# Altium footprint library SWG.PcbLib: 26 footprints (part 2 of 2)
Each footprint in its own frame and in the unit in brackets; x right, y up, seen from the top. Pads: shape width x height; smd on the part's side, far side on the other; paste and mask are expansions set on the pad; w line width, h text height; cw(c..) or ccw(c..) is an arc to the next point about the centre after c.
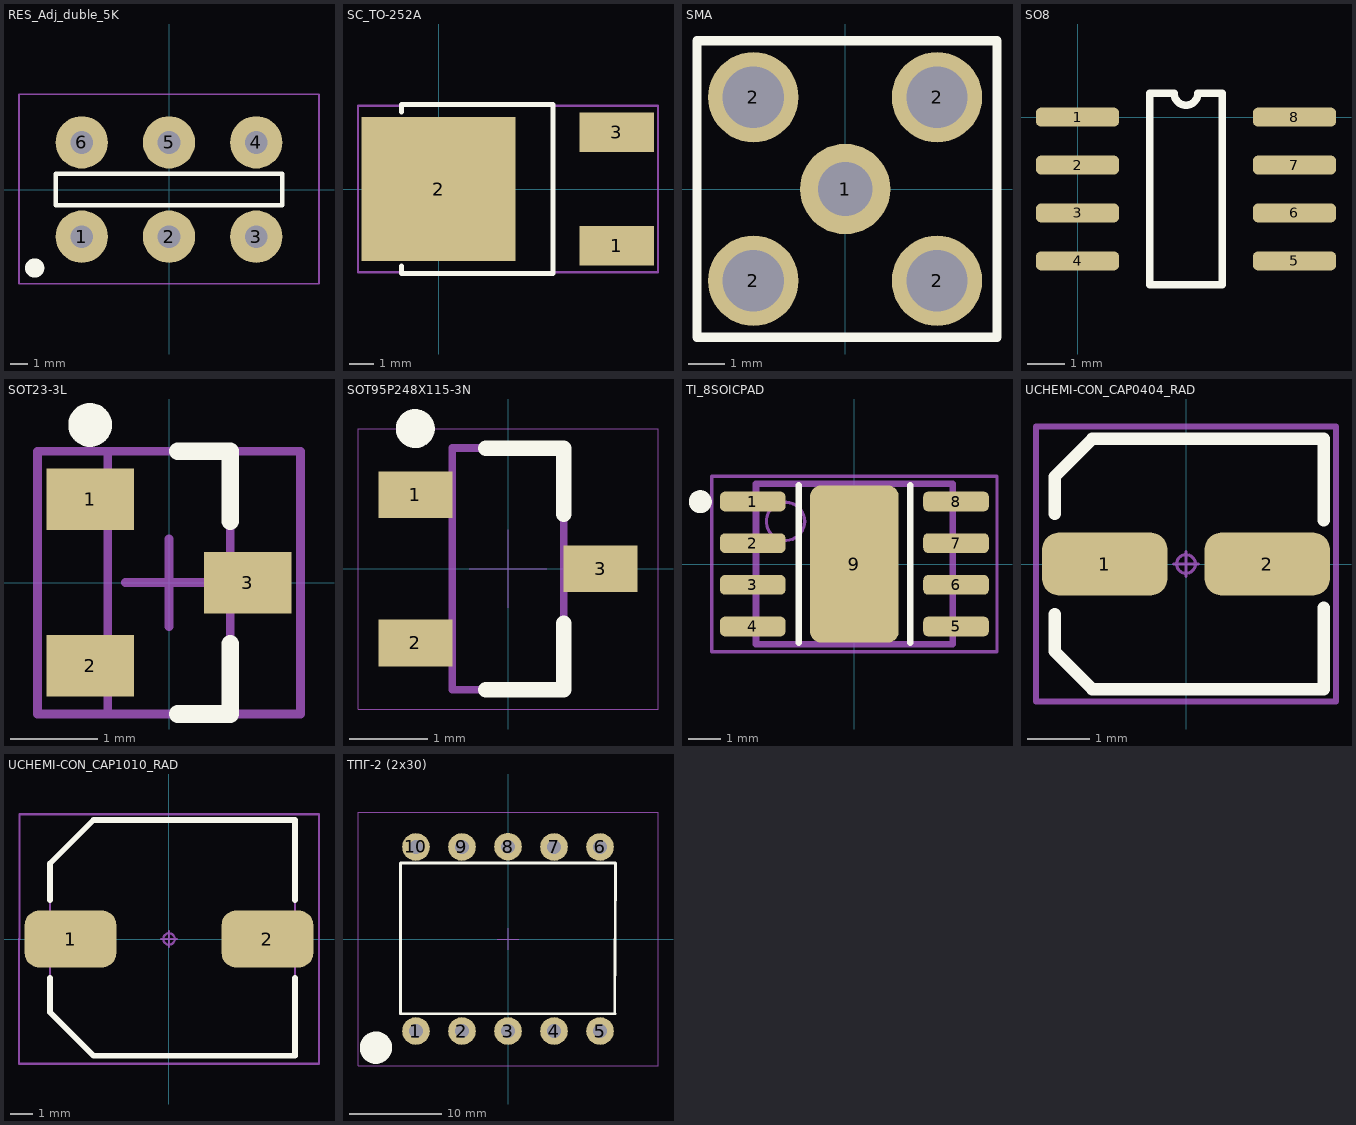
[diagram p1: the footprints below, top view; thin cyan lines are the x and y axes]

## RES_Adj_duble_5K [mm]
height 1
pads (6):
  round 3 hole 1.3: 1(-5,-2.7) 2(0,-2.7) 3(5,-2.7) 4(5,2.7) 5(0,2.7) 6(-5,2.7)
Top Overlay:
  circle w0.7: c-7.7,-4.5 r0.2
  lines w0.254: -6.5,-0.9 6.5,-0.9 6.5,0.9 -6.5,0.9 -6.5,-0.9
Mechanical 15:
  lines w0.1: -8.6,-5.4 8.6,-5.4 8.6,5.461 -8.6,5.461 -8.6,-5.4
3D body: height 1.24, standoff -1.24, extent -2.667,2.794 -2.667,2.794
3D body: height 1.24, standoff -1.24, extent -0.508,2.54 -0.508,2.54
3D body: height 22.2, standoff 0, extent 4.472,-1.397 4.472,-1.397
3D body: height 21.1, standoff 0, extent -8.4,-11.2 8.4,5.3

## SC_TO-252A [mm] "D-PAK"
height 2.55
pads (3):
  rect 3x1.6 smd: 1(7.18,-2.286) 3(7.18,2.286)
  rect 6.2x5.8 smd: 2(0,0)
Top Overlay:
  lines w0.2: -1.5,-3.1 -1.5,-3.4 4.6,-3.4 4.6,3.4 ; -1.5,3.1 -1.5,3.4 4.6,3.4 ; 4.6,3.3 4.6,3.4
Mechanical 15:
  lines w0.1: -3.25,-3.35 8.839,-3.35 8.839,3.35 -3.25,3.35 -3.25,-3.35
3D body "User Library-TO252AA.STEP": height 2.3, standoff -0.01, extent -2.7,-3.29 7,3.29

## SMA [mm]
pads (5):
  round 2.5 hole 1.5: 1(0,0)
  round 2.5 hole 1.7: 2(-2.54,-2.54) 2(-2.54,2.54) 2(2.54,-2.54) 2(2.54,2.54)
Top Overlay:
  lines w0.254: -4.1,-4.1 4.2,-4.1 4.2,4.1 -4.1,4.1 -4.1,-4.1

## SO8 [mm]
pads (16):
  rrect50% 2.2x0.5 smd: 1(0,0) 2(0,-1.27) 3(0,-2.54) 4(0,-3.81) 5(5.75,-3.81) 6(5.75,-2.54) 7(5.75,-1.27) 8(5.75,0)
  rect 2.15x0 smd: 1(0,0)
  oval 2.15x0 smd: 2(0,-1.27) 3(0,-2.54) 4(0,-3.81) 5(5.75,-3.81) 6(5.75,-2.54) 7(5.75,-1.27) 8(5.75,0)
Top Overlay:
  lines w0.2: 1.91,-4.445 3.84,-4.445 3.84,0.635 3.193,0.635 cw(c2.875,0.635) 2.558,0.635 1.91,0.635 1.91,-4.445

## SOT23-3L [mm] "SOT23, 3-Leads, Body 2.9x1.3mm, Pitch 0.95mm, Lead Span 2.5mm, IPC High Density"
height 1.1
pads (3):
  rect 1x0.7 smd: 1(-0.9,0.95) 2(-0.9,-0.95) 3(0.9,0)
Top Overlay:
  circle w0.25: c-0.9,1.8 r0.125
  lines w0.2: 0.1,-1.5 0.7,-1.5 0.7,-0.7 ; 0.1,1.5 0.7,1.5 0.7,0.7
Mechanical 13:
  lines w0.1: -0.7,-1.5 -0.7,1.5 0.7,1.5 0.7,-1.5 -0.7,-1.5
Mechanical 15:
  lines w0.1: -0.5,0 0.5,0 ; 0,-0.5 0,0.5 ; -1.5,-1.5 1.5,-1.5 1.5,1.5 -1.5,1.5 -1.5,-1.5
3D body "User Library-SOT-23-2.STEP": height 1.08, standoff 0, extent -1.32,-1.5 1.32,1.5

## SOT95P248X115-3N [mm] "SOT23, 3-Leads, Body 2,95x2,48mm, Pitch 0,95mm, IPC Medium Density"
height 1.15
pads (3):
  rect 0.95x0.6 smd: 1(-1.19,0.95) 2(-1.19,-0.95) 3(1.19,0)
Top Overlay:
  circle w0.25: c-1.19,1.8 r0.125
  lines w0.2: -0.285,-1.55 0.715,-1.55 0.715,-0.7 ; -0.285,1.55 0.715,1.55 0.715,0.7
Mechanical 13:
  lines w0.1: -0.715,-1.55 -0.715,1.55 0.715,1.55 0.715,-1.55 -0.715,-1.55
Mechanical 15:
  lines w0.01: -0.5,0 0.5,0 ; 0,-0.5 0,0.5 ; -1.925,-1.8 -1.925,1.8 1.925,1.8 1.925,-1.8 -1.925,-1.8
3D body "SOT95P248X115-3N.step": height 1.15, standoff 0, extent -1.3,-1.55 1.3,1.55

## TI_8SOICPAD [mm]
pads (9):
  rrect50% 2x0.6 smd: 1(-3.1,1.905) 2(-3.1,0.635) 3(-3.1,-0.635) 4(-3.1,-1.905) 5(3.1,-1.905) 6(3.1,-0.635) 7(3.1,0.635) 8(3.1,1.905)
  rrect25% 2.7x4.8 smd: 9(0,0)
Top Overlay:
  circle w0.5: c-4.7,1.9 r0.1
  lines w0.2: -1.7,-2.4 -1.7,2.4 ; 1.7,-2.4 1.7,2.4
Mechanical 13:
  circle w0.1: c-2.1,1.3 r0.583
  lines w0.2: -3,-2.45 -3,2.45 3,2.45 3,-2.45 -3,-2.45
Mechanical 15:
  lines w0.1: -4.35,1.9 -4.35,2.675 ; -2,-2.675 4.35,-2.675 ; -1.975,-2.675 -4.35,-2.675 -4.35,-1.9 -4.35,2.675 ; -1.975,2.675 -4.35,2.675 ; -1,0 1,0 ; 0,-1 0,1 ; 1.975,-2.675 4.35,-2.675 ; 4.35,-1.9 4.35,-2.675 ; 4.35,1.9 4.35,2.675 ; -4.35,2.675 1.975,2.675 ; 1.975,2.675 4.35,2.675 ; 1.975,2.675 4.35,2.675 ; 4.35,-2.675 4.35,2.675
3D body "User Library-SOIC-8-1.step": height 1.75, standoff 0, extent -3,-2.45 3,2.45

## UCHEMI-CON_CAP0404_RAD [mm]
pads (2):
  rrect50% 2x1 smd: 1(-1.3,0) 2(1.3,0)
Top Overlay:
  lines w0.2: -2.1,-0.8 -2.1,-1.4 -1.5,-2 2.2,-2 2.2,-0.7 ; -2.1,0.8 -2.1,1.4 -1.5,2 2.2,2 2.2,0.7
Mechanical 15:
  circle w0.05: c0,0 r0.15
  lines w0.05: -0.2,0 0.2,0 ; 0,-0.2 0,0.2
  lines w0.1: -2.39,-2.2 2.4,-2.2 2.4,2.2 -2.4,2.2 -2.4,-2.2 -2.39,-2.2 ; -2.39,-2.2 -2.39,-2.2
3D body: height 5.4, standoff 0, extent -2.4,-2.2 2.4,2.2

## UCHEMI-CON_CAP1010_RAD [mm]
pads (2):
  rrect50% 4x2.5 smd: 1(-4.3,0) 2(4.3,0)
Top Overlay:
  lines w0.254: -5.2,-1.7 -5.2,-3.2 -3.3,-5.1 5.5,-5.1 5.5,-1.7 ; -5.2,1.7 -5.2,3.3 -3.3,5.2 5.5,5.2 5.5,1.7
Mechanical 13:
  lines w0.1: 5.5,5.2 -3.3,5.2 -5.2,3.3 -5.2,1.7 -5.2,-3.2 -3.3,-5.1 5.5,-5.1 5.5,5.2 ; 5.5,5.2 5.5,5.2
Mechanical 15:
  circle w0.1: c0,0 r0.25
  lines w0.1: -6.55,0.025 -6.55,-5.45 -5.325,-5.45 5.325,-5.45 6.55,-5.45 6.55,0.025 ; -6.525,-0.025 -6.525,5.45 -5.3,5.45 5.325,5.45 6.55,5.45 6.55,-0.025 ; -0.35,0 0.35,0 ; 0,-0.35 0,0.35
3D body "User Library-CC1010.step": height 10.41, standoff 0, extent -5.5,-5.2 5.5,5.2

## ТПГ-2 (2x30) [mm]
height 1
pads (10):
  round 3 hole 1.5: 1(-10,-10) 2(-5,-10) 3(0,-10) 4(5,-10) 5(10,-10) 6(10,10) 7(5,10) 8(0,10.033) 9(-5,10) 10(-10,10)
Top Overlay:
  circle w2.5: c-14.351,-11.811 r0.5
  lines w0.3: -11.684,7.62 -11.684,8.255 11.684,8.255 11.6,-8.128 ; -11.684,8.172 -11.684,-8.128 11.616,-8.128
Mechanical 15:
  lines w0.1: -1.143,0 1.157,0 ; 0,-1.143 0,1.157 ; -16.3,-13.8 -16.3,13.8 16.3,13.8 16.3,-13.8 -16.3,-13.8
3D body: height 1.24, standoff -1.24, extent -0.508,2.54 -0.508,2.54
3D body: height 1.24, standoff -1.24, extent -2.667,2.794 -2.667,2.794
3D body: height 30, standoff 0, extent -16.256,-13.779 16.256,13.78
3D body: height 3, standoff -3, extent -10.4,-10.4 -9.6,-9.6
3D body: height 3, standoff -3, extent -5.4,-10.4 -4.6,-9.6
3D body: height 3, standoff -3, extent -0.4,-10.4 0.4,-9.6
3D body: height 3, standoff -3, extent 4.6,-10.4 5.4,-9.6
3D body: height 3, standoff -3, extent 9.6,-10.4 10.4,-9.6
3D body: height 3, standoff -3, extent 4.6,9.6 5.4,10.4
3D body: height 3, standoff -3, extent 9.6,9.6 10.4,10.4
3D body: height 3, standoff -3, extent -5.4,9.6 -4.6,10.4
3D body: height 3, standoff -3, extent -0.4,9.65 0.4,10.45
3D body: height 3, standoff -3, extent -10.4,9.6 -9.6,10.4